# Altium footprint library PcbLib1.PcbLib: 47 footprints (part 1 of 3)
Each footprint in its own frame and in the unit in brackets; x right, y up, seen from the top. Pads: shape width x height; smd on the part's side, far side on the other; paste and mask are expansions set on the pad; w line width, h text height; cw(c..) or ccw(c..) is an arc to the next point about the centre after c.
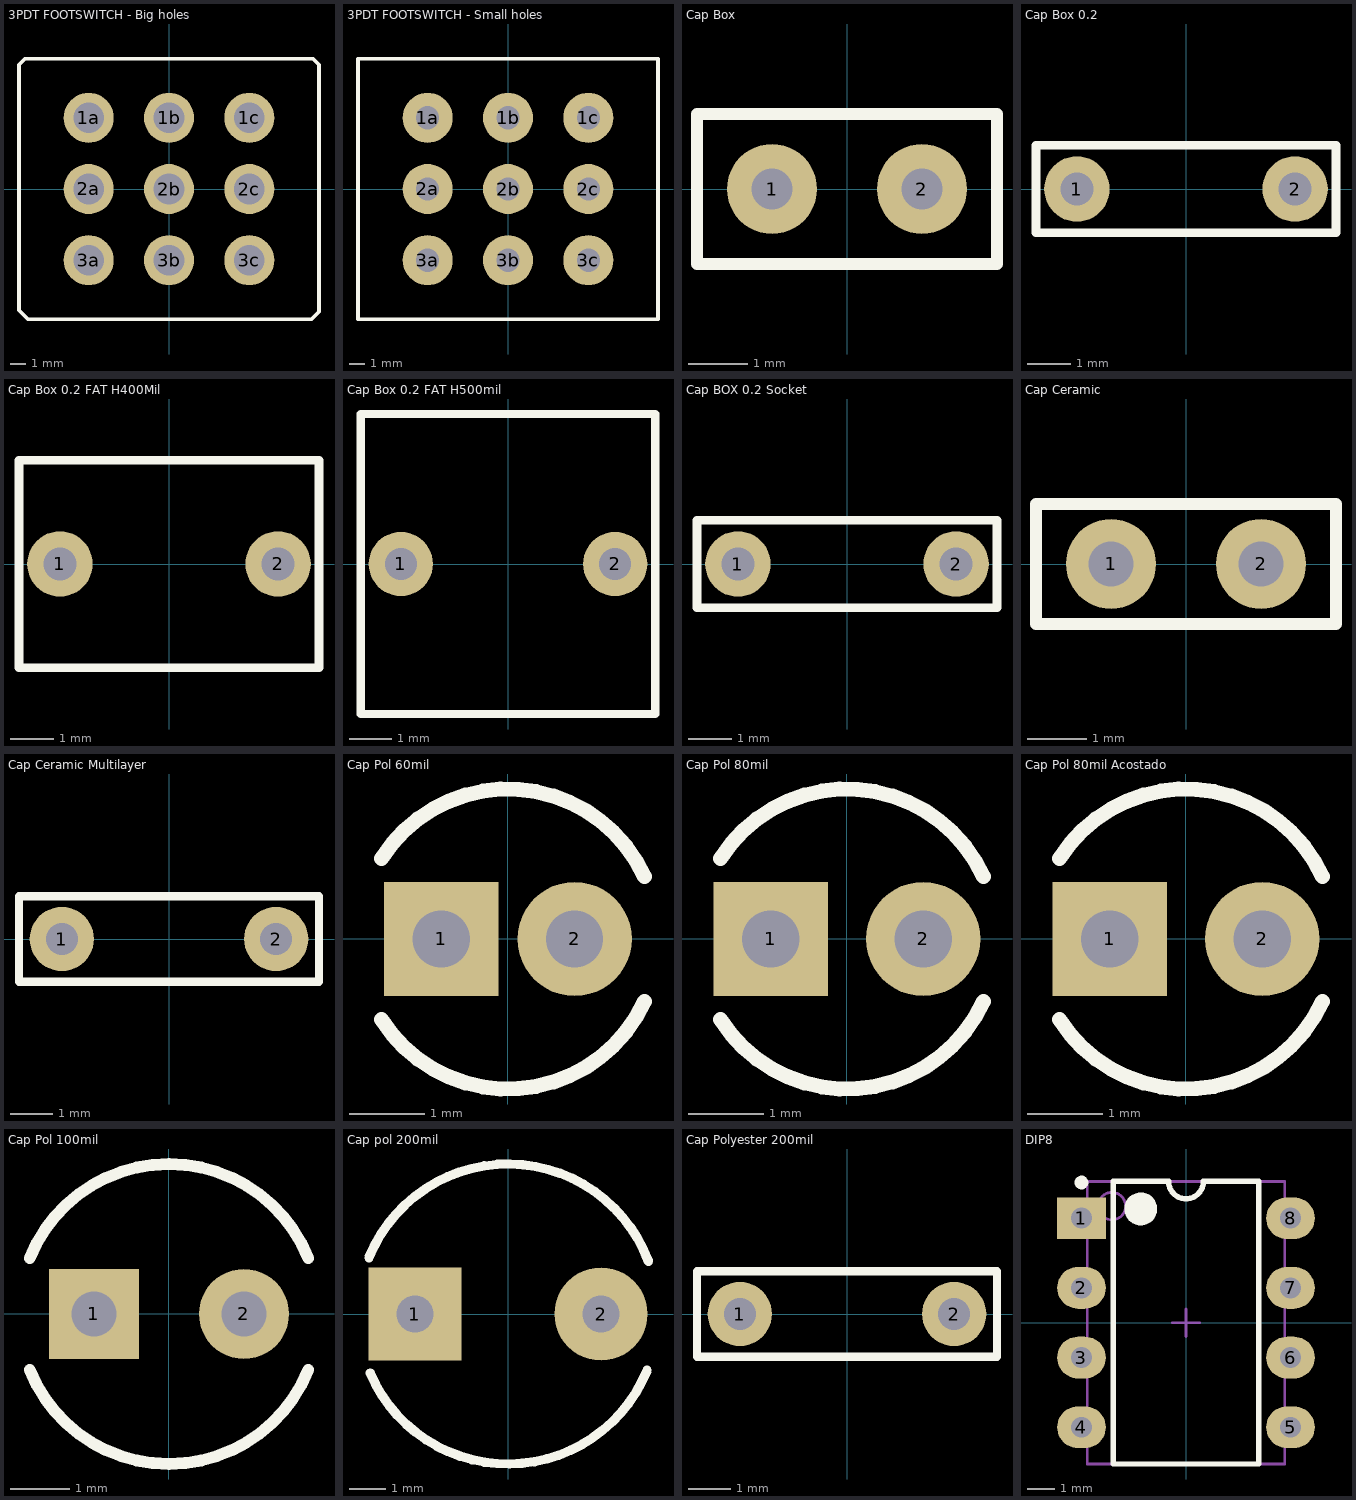
[diagram p0: the footprints below, top view; thin cyan lines are the x and y axes]

## 3PDT FOOTSWITCH - Big holes [mil]
height 1500
pads (9):
  round 130 hole 80: 1a(-208.66,185.04) 1b(0,185.04) 1c(208.66,185.04) 2a(-208.66,0) 2b(0,0) 2c(208.66,0) 3a(-208.66,-185.04) 3b(0,-185.04) 3c(208.66,-185.04)
Top Overlay:
  lines w10: -389.76,-314.96 -389.76,322.83 -374.02,338.58 374.02,338.58 389.76,322.83 389.76,-318.9 370.08,-338.58 -366.14,-338.58 -389.76,-314.96
3D body: height 1496.06, standoff 1299.21, extent -196.84,-196.84 196.86,196.86
3D body: height 1299.21, standoff 1102.36, extent -118.1,-118.1 118.12,118.12
3D body: height 1102.36, standoff 566.93, extent -236.22,-236.22 236.22,236.22
3D body: height 566.93, standoff 20, extent -390,-340 390,340
3D body: height 400, standoff -100, extent -39.37,-15.75 39.37,15.75
3D body: height 400, standoff -100, extent 169.29,-15.75 248.03,15.75
3D body: height 400, standoff -100, extent 169.29,-200.78 248.03,-169.29
3D body: height 400, standoff -100, extent -39.37,-200.78 39.37,-169.29
3D body: height 400, standoff -100, extent -248.03,-200.78 -169.29,-169.29
3D body: height 400, standoff -100, extent -248.03,-15.74 -169.29,15.75
3D body: height 400, standoff -100, extent -248.03,169.29 -169.29,200.79
3D body: height 400, standoff -100, extent -39.37,169.29 39.37,200.79
3D body: height 400, standoff -100, extent 169.29,169.29 248.03,200.79

## 3PDT FOOTSWITCH - Small holes [mil]
height 1500
pads (9):
  round 130 hole 60: 1a(-208.66,185.04) 1b(0,185.04) 1c(208.66,185.04) 2a(-208.66,0) 2b(0,0) 2c(208.66,0) 3a(-208.66,-185.04) 3b(0,-185.04) 3c(208.66,-185.04)
Top Overlay:
  lines w10: -389.76,-338.58 -389.76,338.58 389.76,338.58 389.76,-338.58 -389.76,-338.58
3D body: height 1496.06, standoff 1299.21, extent -196.84,-196.84 196.86,196.86
3D body: height 1299.21, standoff 1102.36, extent -118.1,-118.1 118.12,118.12
3D body: height 1102.36, standoff 566.93, extent -236.22,-236.22 236.22,236.22
3D body: height 566.93, standoff 20, extent -390,-340 390,340
3D body: height 400, standoff -100, extent -39.37,-15.75 39.37,15.75
3D body: height 400, standoff -100, extent 169.29,-15.75 248.03,15.75
3D body: height 400, standoff -100, extent 169.29,-200.78 248.03,-169.29
3D body: height 400, standoff -100, extent -39.37,-200.78 39.37,-169.29
3D body: height 400, standoff -100, extent -248.03,-200.78 -169.29,-169.29
3D body: height 400, standoff -100, extent -248.03,-15.74 -169.29,15.75
3D body: height 400, standoff -100, extent -248.03,169.29 -169.29,200.79
3D body: height 400, standoff -100, extent -39.37,169.29 39.37,200.79
3D body: height 400, standoff -100, extent 169.29,169.29 248.03,200.79

## Cap Box [mil]
height 120
pads (2):
  round 60 hole 27.56: 1(-50,0) 2(50,0)
Top Overlay:
  lines w7.87: -100,-50 -100,50 100,50 100,-50 -100,-50
3D body: height 150, standoff 5, extent -100,-50 100,50
3D body: height 60, standoff -40, extent -59.92,-9.98 -40,9.98
3D body: height 60, standoff -40, extent 40.09,-9.97 60.01,9.99

## Cap Box 0.2 [mil]
pads (2):
  round 60 hole 30: 1(-100,0) 2(100,0)
Top Overlay:
  lines w7.87: -137.5,-40 -137.5,40 137.5,40 137.5,-40 -137.5,-40
3D body: height 240, standoff 5, extent -137.5,-40 137.5,40
3D body: height 60, standoff -40, extent -109.96,-9.98 -90.04,9.98
3D body: height 60, standoff -40, extent 90.04,-9.98 109.96,9.98

## Cap Box 0.2 FAT H400Mil [mil]
height 400
pads (2):
  round 60 hole 30: 1(-100,0.01) 2(100,0.01)
Top Overlay:
  lines w7.87: -137.5,-95 137.5,-95 137.5,95 -137.5,95 -137.5,-95
3D body: height 60, standoff -40, extent 90.04,-9.97 109.96,9.99
3D body: height 60, standoff -40, extent -109.96,-9.97 -90.04,9.99
3D body: height 400, standoff 5, extent -137.5,-95 137.5,95

## Cap Box 0.2 FAT H500mil [mil]
height 500
pads (2):
  round 60 hole 30: 1(-100,0.01) 2(100,0.01)
Top Overlay:
  lines w7.87: -137.5,-140 137.5,-140 137.5,140 -137.5,140 -137.5,-140
3D body: height 60, standoff -40, extent 90.04,-9.97 109.96,9.99
3D body: height 60, standoff -40, extent -109.96,-9.97 -90.04,9.99
3D body: height 500, standoff 5, extent -137.5,-140 137.5,140

## Cap BOX 0.2 Socket [mil]
height 100
pads (2):
  round 60 hole 30: 1(-100,0) 2(100,0)
Top Overlay:
  lines w7.87: -137.5,-40 137.5,-40 137.5,40 -137.5,40 -137.5,-40
3D body: height 61, standoff -40, extent -109.92,-9.98 -90,9.98
3D body: height 60, standoff 0, extent -119.92,-19.93 -80.08,20
3D body: height 61, standoff -40, extent 90.09,-9.97 110.01,9.99
3D body: height 60, standoff 0, extent 80.08,-19.93 119.92,20

## Cap Ceramic [mil]
height 200
pads (2):
  round 60 hole 30: 1(-50,0) 2(50,0)
Top Overlay:
  lines w7.87: -100,-40 100,-40 100,40 -100,40 -100,-40
3D body: height 50, standoff 30, extent -59.99,-9.92 -39.99,9.94
3D body: height 50, standoff 30, extent 40.01,-9.91 60.01,9.94
3D body: height 40, standoff -40, extent 40.09,-9.97 60.01,9.99
3D body: height 40, standoff -40, extent -59.91,-9.97 -39.99,9.99
3D body: height 99.9, standoff 0.1, extent -50.03,-12.5 49.57,12.5

## Cap Ceramic Multilayer [mil]
height 200
pads (2):
  round 60 hole 30: 1(-100,0) 2(100,0)
Top Overlay:
  lines w7.87: -140,-40 140,-40 140,40 -140,40 -140,-40
3D body: height 60, standoff 30, extent -103.9,-14.9 -73.93,14.9
3D body: height 60, standoff 30, extent 74.84,-14.9 104.81,14.9
3D body: height 85, standoff 45, extent 48.89,-19.91 88.55,19.91
3D body: height 85, standoff 45, extent -88.59,-19.91 -48.93,19.91
3D body: height 72.5, standoff 37.5, extent -96.4,-17.38 -61.43,17.38
3D body: height 72.5, standoff 37.5, extent 61.08,-17.38 96.05,17.38
3D body: height 184.87, standoff 35.13, extent -75.19,-20 74.8,20
3D body: height 50, standoff 30, extent -110,-9.92 -90,9.94
3D body: height 50, standoff 30, extent 90,-9.93 110,9.93
3D body: height 40, standoff -40, extent 90.04,-9.98 109.96,9.98
3D body: height 40, standoff -40, extent -109.96,-9.98 -90.04,9.98

## Cap Pol 60mil [mil]
pads (2):
  rect 60x60 hole 30: 1(-35,0)
  round 60 hole 30: 2(35,0)
Top Overlay:
  lines w7.87: -66.4,-42.32 ccw(c0,0) 71.61,-32.74 ; -66.4,42.32 cw(c0,0) 71.61,32.74
3D body: height 435, standoff 5, extent 20.24,-29.94 80,29.94
3D body: height 438, standoff 5, extent -78,-77.87 78,77.87
3D body: height 50, standoff -50, extent 19.45,-9.98 39.37,9.98
3D body: height 50, standoff -50, extent -39.37,-9.98 -19.45,9.98

## Cap Pol 80mil [mil]
pads (2):
  rect 60x60 hole 30: 1(-40,0)
  round 60 hole 30: 2(40,0)
Top Overlay:
  lines w7.87: -66.4,-42.32 ccw(c0,0) 71.61,-32.74 ; -66.4,42.32 cw(c0,0) 71.61,32.74
3D body: height 50, standoff -50, extent -59.92,-9.98 -40,9.98
3D body: height 50, standoff -50, extent 40.08,-9.98 60,9.98
3D body: height 438, standoff 5, extent -78,-77.87 78,77.87
3D body: height 435, standoff 5, extent 20.24,-29.94 80,29.94

## Cap Pol 80mil Acostado [mil]
pads (2):
  rect 60x60 hole 30: 1(-40,0)
  round 60 hole 30: 2(40,0)
Top Overlay:
  lines w7.87: -66.4,-42.32 ccw(c0,0) 71.61,-32.74 ; -66.4,42.32 cw(c0,0) 71.61,32.74
3D body: height 50, standoff -50, extent -59.92,-9.98 -40,9.98
3D body: height 50, standoff -50, extent 40.08,-9.98 60,9.98
3D body: height 438, standoff 5, extent -78,-77.87 78,77.87
3D body: height 435, standoff 5, extent 20.24,-29.94 80,29.94

## Cap Pol 100mil [mil]
height 200
pads (2):
  rect 60x60 hole 30: 1(-50,0)
  round 60 hole 30: 2(50,0)
Top Overlay:
  lines w7.87: -92.85,-37.14 ccw(c0,0) 92.85,-37.14 ; -92.85,37.14 cw(c0,0) 92.85,37.14
3D body: height 435, standoff 5, extent -1.59,-51.89 102,51.9
3D body: height 438, standoff 5, extent -100,-99.87 100,99.88
3D body: height 50, standoff -50, extent 40.08,-9.98 60,9.98
3D body: height 50, standoff -50, extent -59.92,-9.98 -40,9.98

## Cap pol 200mil [mil]
pads (2):
  rect 100x100 hole 40: 1(-100,0)
  round 100 hole 40: 2(100,0)
Top Overlay:
  lines w10: -149.46,60.51 cw(c0,0) 150.98,56.62 ; -148.21,-63.52 ccw(c0,0) 149.46,-60.51
3D body: height 50, standoff -50, extent -119.84,-19.96 -79.99,19.97
3D body: height 50, standoff -50, extent 80.08,-19.96 119.92,19.96
3D body: height 605, standoff 5, extent -160,-160 160,160
3D body: height 603, standoff 5, extent -139,-149.88 161,150.12

## Cap Polyester 200mil [mil]
pads (2):
  round 60 hole 30: 1(-100,0) 2(100,0)
Top Overlay:
  lines w7.87: -140,-40 140,-40 140,40 -140,40 -140,-40
3D body: height 40, standoff -40, extent 90.04,-9.98 109.96,9.98
3D body: height 40, standoff -40, extent -109.96,-9.98 -90.04,9.98
3D body: height 54, standoff 26, extent 86,-13.9 114,13.9
3D body: height 54, standoff 26, extent -114,-13.89 -86,13.91
3D body: height 300, standoff 40, extent -110,-40 110,40

## DIP8 [mil]
height 200
pads (8):
  rect 70x60 hole 30: 1(-150,150)
  oval 70x60 hole 30: 2(-150,50) 3(-150,-50) 4(-150,-150) 5(150,-150) 6(150,-50) 7(150,50) 8(150,150)
Top Overlay:
  circle w23.62: c-64.96,163.39 r11.81
  circle w9.84: c-150,201.18 r4.92
  lines w7.87: -104.33,-202.76 104.33,-202.76 104.33,202.76 25,202.76 cw(c0,202.76) -25,202.76 -104.33,202.76 -104.33,-202.76
Mechanical 13:
  circle w3.94: c-106.3,167.32 r19.68
  lines w3.94: -141.73,-202.76 141.73,-202.76 141.73,202.76 -141.73,202.76 -141.73,-202.76
Mechanical 15:
  lines w3.94: -19.68,0 19.68,0 ; 0,-19.68 0,19.68
3D body: height 180, standoff 0, extent -141.73,-202.76 141.73,202.76
3D body: height 95, standoff -30, extent 145,140 155,160
3D body: height 105, standoff 95, extent 105,137.5 155,162.5
3D body: height 95, standoff -30, extent 145,40 155,60
3D body: height 105, standoff 95, extent 105,37.5 155,62.5
3D body: height 95, standoff -30, extent 145,-60 155,-40
3D body: height 105, standoff 95, extent 105,-62.5 155,-37.5
3D body: height 95, standoff -30, extent 145,-160 155,-140
3D body: height 105, standoff 95, extent 105,-162.5 155,-137.5
3D body: height 95, standoff -30, extent -155,-160 -145,-140
3D body: height 105, standoff 95, extent -155,-162.5 -105,-137.5
3D body: height 95, standoff -30, extent -155,-60 -145,-40
3D body: height 105, standoff 95, extent -155,-62.5 -105,-37.5
3D body: height 95, standoff -30, extent -155,40 -145,60
3D body: height 105, standoff 95, extent -155,37.5 -105,62.5
3D body: height 105, standoff 95, extent -155,137.5 -105,162.5
3D body: height 95, standoff -30, extent -155,140 -145,160
3D body: height 190, standoff 130, extent -95,133.87 -35,193.64